# Altium integrated library GRM188R60J226MEA0D.IntLib: 1 symbol
Pins are listed as number, name and electrical type; pins without a type are passive.

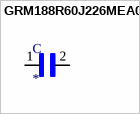
[diagram p0: symbol GRM188R60J226MEA0D]

## GRM188R60J226MEA0D
designator C
SMD Capacitor X5R_EIA_ with Capacitance: 22uF Tol. 20%. Rated Voltage: 6.3Vdc; MF: Murata; MP: GRM188R60J226MEA0D; Digi-Key_Purchase_URL: https://www.digikey.com/product-detail/en/murata-electronics/GRM188R60J226MEA0D/490-7611-1-ND/4280544?utm_source=snapeda&utm_medium=aggregator&utm_campaign=symbol; Digi-Key_Part_Number: 490-7611-1-ND; Package: 1608 Murata; SnapEDA_Link: https://www.snapeda.com/parts/GRM188R60J226MEA0D/Murata/view-part/4379901/?ref=snap; Value: *
footprint CAPC1608X100N
pins: 1, 2